# Altium integrated library HEADER RES 3.IntLib: 1 symbol
Pins are listed as number, name and electrical type; pins without a type are passive.

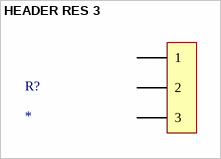
[diagram p0: symbol HEADER RES 3]

## HEADER RES 3
designator R?
MP: ERJU03F4020V; Price: None; Availability: Unavailable; Value: *; Package: None
footprint HEADER RES 3
pins: 1, 2, 2 3